# Altium schematic symbol library Schlib1.SchLib: 1 symbol
Pins are listed as number, name and electrical type; pins without a type are passive.

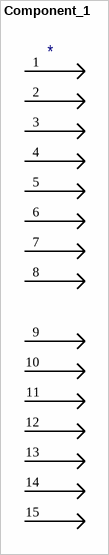
[diagram p0: symbol Component_1]

## Component_1
designator *  (value not drawn)
footprint DB-15 on PCB
pins: 1 C4, 2, 3, 4, 5, 6, 7, 8, 9, 10, 11, 12, 13, 14, 15